# EAGLE library part RFM95W (library RFM95W-RN2483)
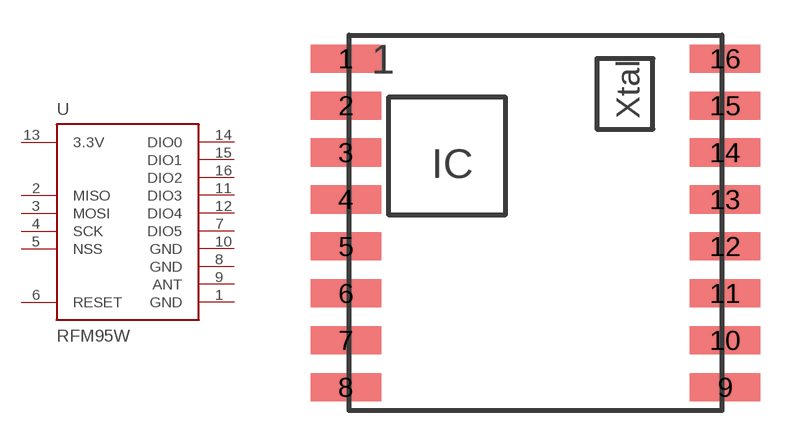
[diagram p0: symbol with the pads of RFM95W; footprint RFM95W]

Designator prefix U

## RFM95WSMD  [RFM95W]
1  GND  pwr
2  MISO
3  MOSI  in
4  SCK  in
5  NSS  in
6  RESET  in
7  DIO5
8  GND  pwr
9  ANT  pas
10  GND  pwr
11  DIO3
12  DIO4
13  3.3V  pwr
14  DIO0
15  DIO1
16  DIO2

## Footprint RFM95W (pad centres in mm)
smd 3 x 1.2: 1 -8.08,7; 2 -8.08,5; 3 -8.08,3; 4 -8.08,1; 5 -8.08,-1; 6 -8.08,-3; 7 -8.08,-5; 8 -8.08,-7; 9 8.08,-7; 10 8.08,-5; 11 8.08,-3; 12 8.08,-1; 13 8.08,1; 14 8.08,3; 15 8.08,5; 16 8.08,7